# Altium schematic symbol library WE-LQFS_4818.SchLib: 11 symbols
Pins are listed as number, name and electrical type; pins without a type are passive.

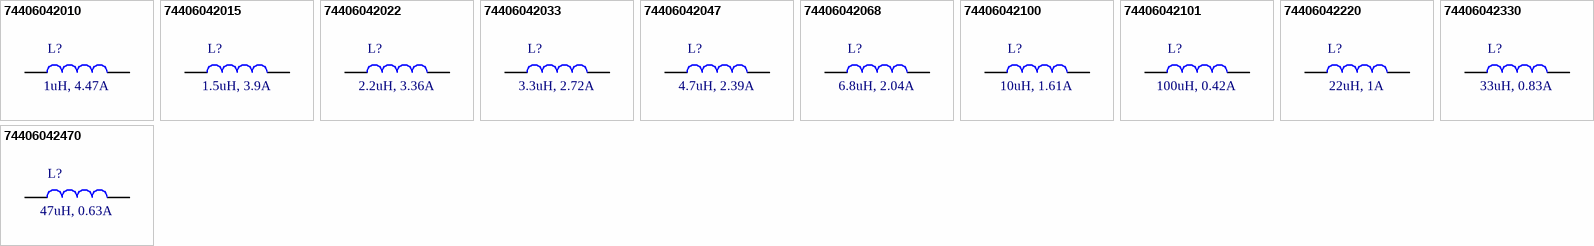
[diagram p0: symbols 74406042010 to 74406042470]

## 74406042010
designator L?, comment 1uH, 4.47A
WE-LQFS SMT Power Inductor, size 4818, 1uH, 4.47A; Manufacturer: Wurth Elektronik; Manufacturer Part Number: 74406042010; Self Resonant Frequency: 237MHz; DC Resistance typ.: 19mOhm; DC Resistance max.: 23mOhm; Saturation Current: 4.06A; ComponentLink1Description: Manufacturer; ComponentLink1URL: http://www.we-online.de; ComponentLink2Description: Datasheet; ComponentLink2URL: https://www.we-online.com/catalog/datasheet/74406042010.pdf; Mounting Technology: SMT; Operating Temperature: -40 to +125degC; Packaging: Tape and Reel; Published Date: April 2020; Inductance: 1uH; Rated Current: 4.47A; Size: 4818
footprint WE-LQFS_4818
pins: 1, 2

## 74406042015
designator L?, comment 1.5uH, 3.9A
WE-LQFS SMT Power Inductor, size 4818, 1.5uH, 3.9A; Manufacturer: Wurth Elektronik; Manufacturer Part Number: 74406042015; Self Resonant Frequency: 176MHz; DC Resistance typ.: 25mOhm; DC Resistance max.: 30mOhm; Saturation Current: 3.08A; ComponentLink1Description: Manufacturer; ComponentLink1URL: http://www.we-online.de; ComponentLink2Description: Datasheet; ComponentLink2URL: https://www.we-online.com/catalog/datasheet/74406042015.pdf; Mounting Technology: SMT; Operating Temperature: -40 to +125degC; Packaging: Tape and Reel; Published Date: April 2020; Inductance: 1.5uH; Rated Current: 3.9A; Size: 4818
footprint WE-LQFS_4818
pins: 1, 2

## 74406042022
designator L?, comment 2.2uH, 3.36A
WE-LQFS SMT Power Inductor, size 4818, 2.2uH, 3.36A; Manufacturer: Wurth Elektronik; Manufacturer Part Number: 74406042022; Self Resonant Frequency: 132MHz; DC Resistance typ.: 33mOhm; DC Resistance max.: 40mOhm; Saturation Current: 2.73A; ComponentLink1Description: Manufacturer; ComponentLink1URL: http://www.we-online.de; ComponentLink2Description: Datasheet; ComponentLink2URL: https://www.we-online.com/catalog/datasheet/74406042022.pdf; Mounting Technology: SMT; Operating Temperature: -40 to +125degC; Packaging: Tape and Reel; Published Date: April 2020; Inductance: 2.2uH; Rated Current: 3.36A; Size: 4818
footprint WE-LQFS_4818
pins: 1, 2

## 74406042033
designator L?, comment 3.3uH, 2.72A
WE-LQFS SMT Power Inductor, size 4818, 3.3uH, 2.72A; Manufacturer: Wurth Elektronik; Manufacturer Part Number: 74406042033; Self Resonant Frequency: 99MHz; DC Resistance typ.: 51mOhm; DC Resistance max.: 61mOhm; Saturation Current: 2.12A; ComponentLink1Description: Manufacturer; ComponentLink1URL: http://www.we-online.de; ComponentLink2Description: Datasheet; ComponentLink2URL: https://www.we-online.com/catalog/datasheet/74406042033.pdf; Mounting Technology: SMT; Operating Temperature: -40 to +125degC; Packaging: Tape and Reel; Published Date: April 2020; Inductance: 3.3uH; Rated Current: 2.72A; Size: 4818
footprint WE-LQFS_4818
pins: 1, 2

## 74406042047
designator L?, comment 4.7uH, 2.39A
WE-LQFS SMT Power Inductor, size 4818, 4.7uH, 2.39A; Manufacturer: Wurth Elektronik; Manufacturer Part Number: 74406042047; Self Resonant Frequency: 89MHz; DC Resistance typ.: 58mOhm; DC Resistance max.: 70mOhm; Saturation Current: 1.53A; ComponentLink1Description: Manufacturer; ComponentLink1URL: http://www.we-online.de; ComponentLink2Description: Datasheet; ComponentLink2URL: https://www.we-online.com/catalog/datasheet/74406042047.pdf; Mounting Technology: SMT; Operating Temperature: -40 to +125degC; Packaging: Tape and Reel; Published Date: April 2020; Inductance: 4.7uH; Rated Current: 2.39A; Size: 4818
footprint WE-LQFS_4818
pins: 1, 2

## 74406042068
designator L?, comment 6.8uH, 2.04A
WE-LQFS SMT Power Inductor, size 4818, 6.8uH, 2.04A; Manufacturer: Wurth Elektronik; Manufacturer Part Number: 74406042068; Self Resonant Frequency: 60MHz; DC Resistance typ.: 81mOhm; DC Resistance max.: 97mOhm; Saturation Current: 1.26A; ComponentLink1Description: Manufacturer; ComponentLink1URL: http://www.we-online.de; ComponentLink2Description: Datasheet; ComponentLink2URL: https://www.we-online.com/catalog/datasheet/74406042068.pdf; Mounting Technology: SMT; Operating Temperature: -40 to +125degC; Packaging: Tape and Reel; Published Date: April 2020; Inductance: 6.8uH; Rated Current: 2.04A; Size: 4818
footprint WE-LQFS_4818
pins: 1, 2

## 74406042100
designator L?, comment 10uH, 1.61A
WE-LQFS SMT Power Inductor, size 4818, 10uH, 1.61A; Manufacturer: Wurth Elektronik; Manufacturer Part Number: 74406042100; Self Resonant Frequency: 45MHz; DC Resistance typ.: 111mOhm; DC Resistance max.: 133mOhm; Saturation Current: 1.1A; ComponentLink1Description: Manufacturer; ComponentLink1URL: http://www.we-online.de; ComponentLink2Description: Datasheet; ComponentLink2URL: https://www.we-online.com/catalog/datasheet/74406042100.pdf; Mounting Technology: SMT; Operating Temperature: -40 to +125degC; Packaging: Tape and Reel; Published Date: April 2020; Inductance: 10uH; Rated Current: 1.61A; Size: 4818
footprint WE-LQFS_4818
pins: 1, 2

## 74406042101
designator L?, comment 100uH, 0.42A
WE-LQFS SMT Power Inductor, size 4818, 100uH, 0.42A; Manufacturer: Wurth Elektronik; Manufacturer Part Number: 74406042101; Self Resonant Frequency: 15MHz; DC Resistance typ.: 1155mOhm; DC Resistance max.: 1386mOhm; Saturation Current: 0.32A; ComponentLink1Description: Manufacturer; ComponentLink1URL: http://www.we-online.de; ComponentLink2Description: Datasheet; ComponentLink2URL: https://www.we-online.com/catalog/datasheet/74406042101.pdf; Mounting Technology: SMT; Operating Temperature: -40 to +125degC; Packaging: Tape and Reel; Published Date: April 2020; Inductance: 100uH; Rated Current: 0.42A; Size: 4818
footprint WE-LQFS_4818
pins: 1, 2

## 74406042220
designator L?, comment 22uH, 1A
WE-LQFS SMT Power Inductor, size 4818, 22uH, 1A; Manufacturer: Wurth Elektronik; Manufacturer Part Number: 74406042220; Self Resonant Frequency: 30MHz; DC Resistance typ.: 283mOhm; DC Resistance max.: 339mOhm; Saturation Current: 0.68A; ComponentLink1Description: Manufacturer; ComponentLink1URL: http://www.we-online.de; ComponentLink2Description: Datasheet; ComponentLink2URL: https://www.we-online.com/catalog/datasheet/74406042220.pdf; Mounting Technology: SMT; Operating Temperature: -40 to +125degC; Packaging: Tape and Reel; Published Date: April 2020; Inductance: 22uH; Rated Current: 1A; Size: 4818
footprint WE-LQFS_4818
pins: 1, 2

## 74406042330
designator L?, comment 33uH, 0.83A
WE-LQFS SMT Power Inductor, size 4818, 33uH, 0.83A; Manufacturer: Wurth Elektronik; Manufacturer Part Number: 74406042330; Self Resonant Frequency: 25MHz; DC Resistance typ.: 407mOhm; DC Resistance max.: 488mOhm; Saturation Current: 0.58A; ComponentLink1Description: Manufacturer; ComponentLink1URL: http://www.we-online.de; ComponentLink2Description: Datasheet; ComponentLink2URL: https://www.we-online.com/catalog/datasheet/74406042330.pdf; Mounting Technology: SMT; Operating Temperature: -40 to +125degC; Packaging: Tape and Reel; Published Date: April 2020; Inductance: 33uH; Rated Current: 0.83A; Size: 4818
footprint WE-LQFS_4818
pins: 1, 2

## 74406042470
designator L?, comment 47uH, 0.63A
WE-LQFS SMT Power Inductor, size 4818, 47uH, 0.63A; Manufacturer: Wurth Elektronik; Manufacturer Part Number: 74406042470; Self Resonant Frequency: 20MHz; DC Resistance typ.: 523mOhm; DC Resistance max.: 627mOhm; Saturation Current: 0.47A; ComponentLink1Description: Manufacturer; ComponentLink1URL: http://www.we-online.de; ComponentLink2Description: Datasheet; ComponentLink2URL: https://www.we-online.com/catalog/datasheet/74406042470.pdf; Mounting Technology: SMT; Operating Temperature: -40 to +125degC; Packaging: Tape and Reel; Published Date: April 2020; Inductance: 47uH; Rated Current: 0.63A; Size: 4818
footprint WE-LQFS_4818
pins: 1, 2